# Altium schematic symbol library IKCM30F60GD.SchLib: 1 symbol
Pins are listed as number, name and electrical type; pins without a type are passive.

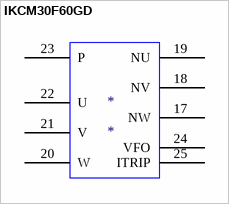
[diagram p0: symbol IKCM30F60GD]

## IKCM30F60GD
designator *
Power Control
pins: 17 NW, 18 NV, 19 NU, 20 W, 21 V, 22 U, 23 P, 24 VFO, 25 ITRIP